# Altium footprint library TO254P1010X450X1980-3B.PcbLib: 1 footprints
Each footprint in its own frame and in the unit in brackets; x right, y up, seen from the top. Pads: shape width x height; smd on the part's side, far side on the other; paste and mask are expansions set on the pad; w line width, h text height; cw(c..) or ccw(c..) is an arc to the next point about the centre after c.
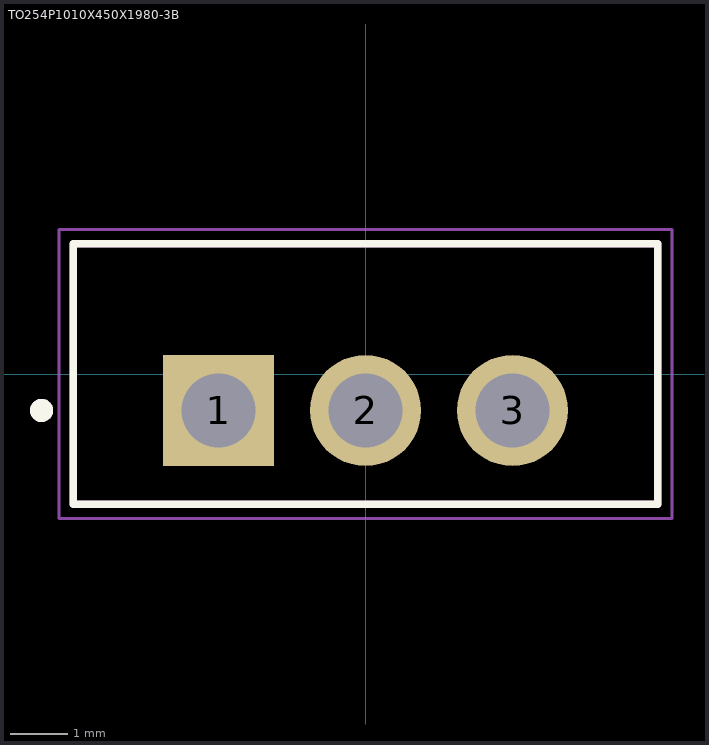
[diagram p0: the footprint, top view; thin cyan lines are the x and y axes]

## TO254P1010X450X1980-3B [mm]
height 19.8
pads (3):
  rect 1.92x1.92 / inner round 1.92 / far side rect 1.92x1.92 hole 1.28: 1(-2.54,-0.63)
  round 1.92 hole 1.28: 2(0,-0.63) 3(2.54,-0.63)
Top Overlay:
  circle w0.2: c-5.6,-0.63 r0.1
  lines w0.127: -5.05,-2.25 5.05,-2.25 5.05,2.25 -5.05,2.25 -5.05,-2.25
Mechanical 13:
  circle w0.2: c-5.6,-0.63 r0.1
  lines w0.127: -5.05,-2.25 5.05,-2.25 5.05,2.25 -5.05,2.25 -5.05,-2.25
Mechanical 15:
  lines w0.05: -5.3,-2.5 5.3,-2.5 5.3,2.5 -5.3,2.5 -5.3,-2.5
3D body "step_temp.STEP": height 10.1, standoff -18.79, extent -0.636,-1.833 9.675,2.667